# EAGLE library part NE571 (library jaapie)
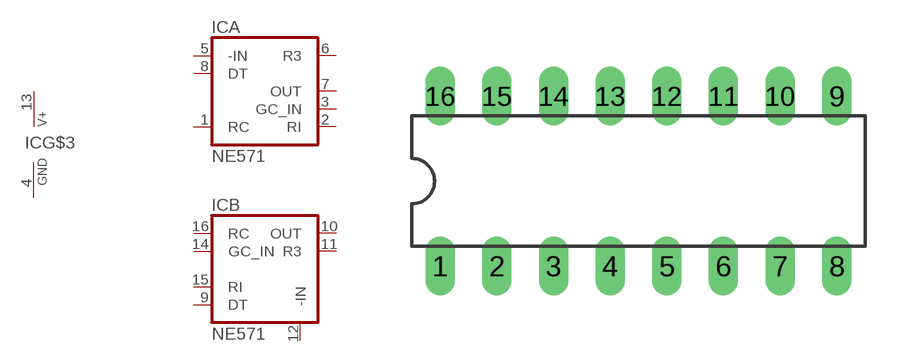
[diagram p1: symbol with the pads of DIL16; footprint DIL16]

Designator prefix IC; gates A=NE571 G$3=PWRN B=NE571B

## NE571  [DIL16]
1  A:RC
2  A:RI
3  A:GC_IN
4  G$3:VSS  pwr
5  A:-IN
6  A:R3
7  A:OUT  out
8  A:DT
9  B:DT
10  B:OUT  out
11  B:R3
12  B:-IN
13  G$3:VDD  pwr
14  B:GC_IN
15  B:RI
16  B:RC

## Footprint DIL16 (pad centres in mm)
Dual In Line Package
drill 0.813 long: 1 -8.89,-3.81; 2 -6.35,-3.81; 3 -3.81,-3.81; 4 -1.27,-3.81; 5 1.27,-3.81; 6 3.81,-3.81; 7 6.35,-3.81; 8 8.89,-3.81; 9 8.89,3.81; 10 6.35,3.81; 11 3.81,3.81; 12 1.27,3.81; 13 -1.27,3.81; 14 -3.81,3.81; 15 -6.35,3.81; 16 -8.89,3.81